# EAGLE library part HEADER_2X4 (library rgb_cube)
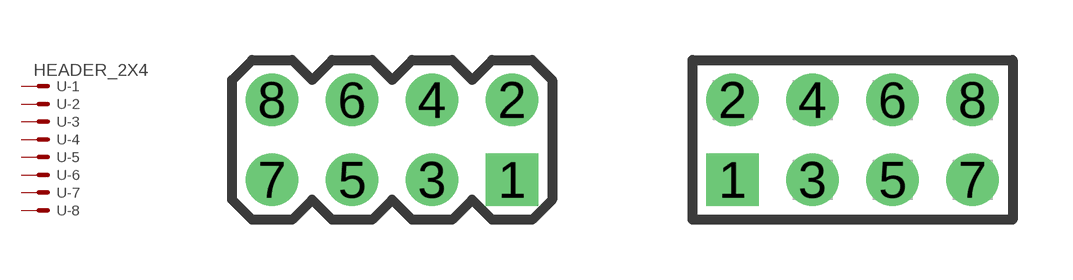
[diagram p56: symbol with the pads of HEADER_2MM_2X4_TH; footprints HEADER_2MM_2X4_TH, HEADER_2MM_2X4_TH_REVERSE]

Designator prefix -; gates -1=MV -2=M -3=M -4=M -5=M -6=M -7=M -8=M

## HEADER_2X4TH  [HEADER_2MM_2X4_TH]
1  -1:S  pas
2  -2:S  pas
3  -3:S  pas
4  -4:S  pas
5  -5:S  pas
6  -6:S  pas
7  -7:S  pas
8  -8:S  pas

## HEADER_2X4TH_REV  [HEADER_2MM_2X4_TH_REVERSE]
Pads as for HEADER_2MM_2X4_TH

## Footprint HEADER_2MM_2X4_TH (pad centres in mm)
drill 0.8 square: 1 3,-1
drill 0.8 round: 2 3,1; 3 1,-1; 4 1,1; 5 -1,-1; 6 -1,1; 7 -3,-1; 8 -3,1

## Footprint HEADER_2MM_2X4_TH_REVERSE (pad centres in mm)
drill 0.8 square: 1 -3,-1
drill 0.8 round: 2 -3,1; 3 -1,-1; 4 -1,1; 5 1,-1; 6 1,1; 7 3,-1; 8 3,1